# Altium schematic symbol library Switch_Alcoswitch_MHS133G04_eec.SchLib: 1 symbol
Pins are listed as number, name and electrical type; pins without a type are passive.

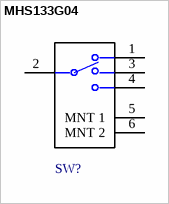
[diagram p0: symbol MHS133G04]

## MHS133G04
designator SW?  (value not drawn)
pins: 1, 2, 3, 4, 5 MNT 1, 6 MNT 2